# EAGLE library part 555X-16 (library con-molex-2)
Mini FIT connector 16 way
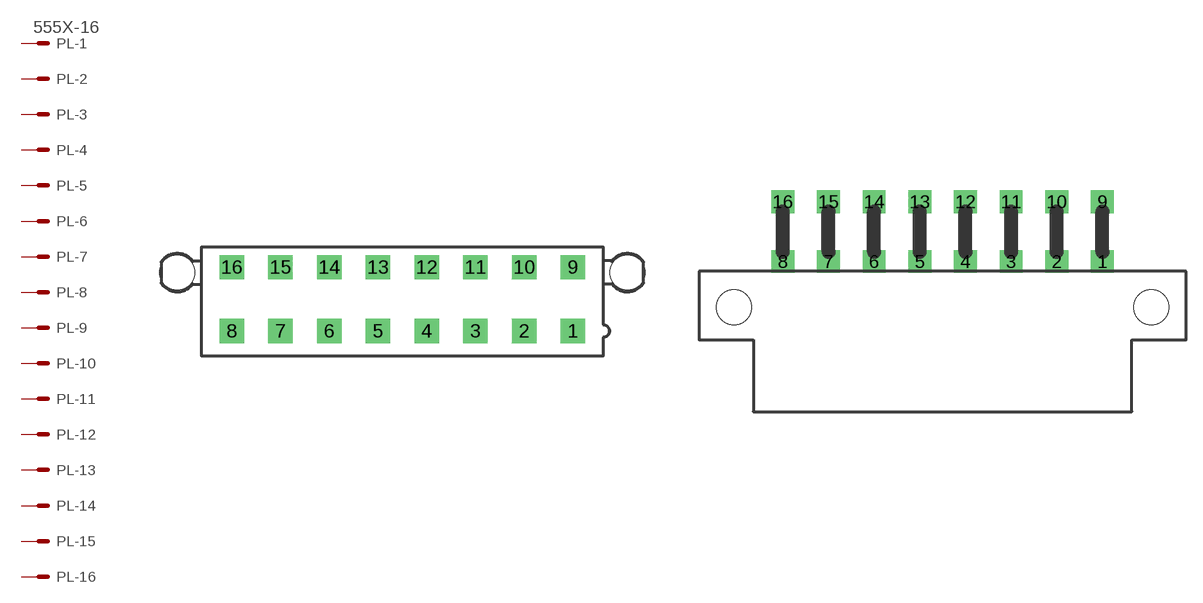
[diagram p5: symbol with the pads of 5566-16; footprints 5566-16, 5569-16]

Designator prefix PL; gates -1=MV -2=M -3=M -4=M -5=M -6=M -7=M -8=M -9=M -10=M -11=M -12=M -13=M -14=M -15=M -16=M

## 555X-16V  [5566-16]
1  -1:S  pas
2  -2:S  pas
3  -3:S  pas
4  -4:S  pas
5  -5:S  pas
6  -6:S  pas
7  -7:S  pas
8  -8:S  pas
9  -9:S  pas
10  -10:S  pas
11  -11:S  pas
12  -12:S  pas
13  -13:S  pas
14  -14:S  pas
15  -15:S  pas
16  -16:S  pas

## 555X-16H  [5569-16]
Pads as for 5566-16

## Footprint 5566-16 (pad centres in mm)
Mini FIT connector 16 pol
drill 1.4 square: 1 14.7,-2.75; 2 10.5,-2.75; 3 6.3,-2.75; 4 2.1,-2.75; 5 -2.1,-2.75; 6 -6.3,-2.75; 7 -10.5,-2.75; 8 -14.7,-2.75; 9 14.7,2.75; 10 10.5,2.75; 11 6.3,2.75; 12 2.1,2.75; 13 -2.1,2.75; 14 -6.3,2.75; 15 -10.5,2.75; 16 -14.7,2.75
hole 3 at 19.4,2.29
hole 3 at -19.4,2.29

## Footprint 5569-16 (pad centres in mm)
Mini FIT connector 16 R/A
drill 1.4 square: 1 14.7,0; 2 10.5,0; 3 6.3,0; 4 2.1,0; 5 -2.1,0; 6 -6.3,0; 7 -10.5,0; 8 -14.7,0; 9 14.7,5.5; 10 10.5,5.5; 11 6.3,5.5; 12 2.1,5.5; 13 -2.1,5.5; 14 -6.3,5.5; 15 -10.5,5.5; 16 -14.7,5.5
hole 3.2 at 19.2,-4.2
hole 3.2 at -19.2,-4.2